# Altium footprint library sustentationAvecPC.PcbLib: 21 footprints (part 2 of 2)
Each footprint in its own frame and in the unit in brackets; x right, y up, seen from the top. Pads: shape width x height; smd on the part's side, far side on the other; paste and mask are expansions set on the pad; w line width, h text height; cw(c..) or ccw(c..) is an arc to the next point about the centre after c.
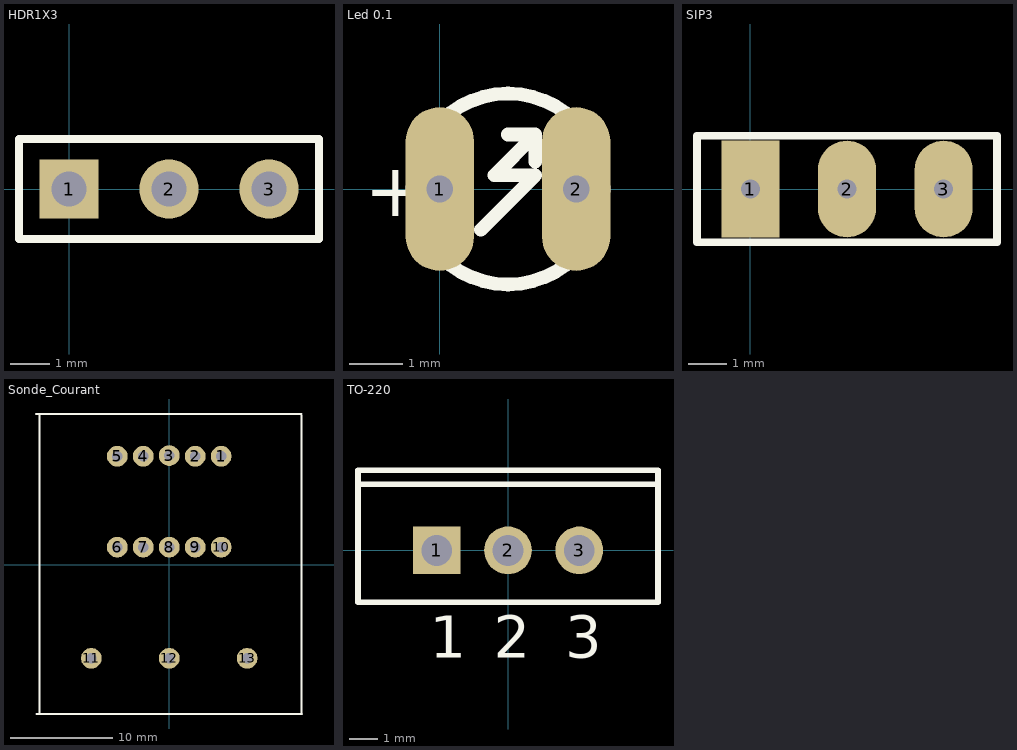
[diagram p1: the footprints below, top view; thin cyan lines are the x and y axes]

## HDR1X3 [mm] "Connector; Header; 3 Position"
pads (3):
  rect 1.5x1.5 hole 0.9: 1(0,0)
  round 1.5 hole 0.9: 2(2.54,0) 3(5.08,0)
Top Overlay:
  lines w0.2: -1.27,-1.27 6.35,-1.27 6.35,1.27 -1.27,1.27 -1.27,-1.27

## Led 0.1 [mil]
pads (2):
  oval 50x120 hole 19.68: 1(0,0) 2(100,0)
Top Overlay:
  circle w10: c50,0 r70
  lines w10: 30,-30 70,10 40,10 70,40 ; 50,40 70,40 ; 70,20 70,40
  text "+" at -55,-20 h39.37

## SIP3 [mil]
pads (3):
  rect 60x100 hole 19.68: 1(0,0)
  oval 60x100 hole 19.68: 2(100,0) 3(200,0)
Top Overlay:
  lines w7.87: -55.12,-55.12 -55.12,55.12 255.12,55.12 255.12,-55.12 -55.12,-55.12

## Sonde_Courant [mil] "Adjustable Magnetic-Core Inductor; 2 Leads"
pads (13):
  round 80 hole 39.37: 1(200,417.32) 2(100,417.32) 3(0,420) 4(-100,417.32) 5(-200,417.32) 6(-200,67.32) 7(-100,67.32) 8(0,67.32) 9(100,67.32) 10(200,67.32) 11(-300,-360.63) 12(0,-360.63) 13(300,-360.63)
Top Overlay:
  lines w7.87: -513.62,580 510,580 ; -511.81,-575 511.81,-575 ; -500,-569.61 -500,580 ; 510,-574.61 510,575

## TO-220 [mm] "TO, Thru-Hole, Vertical, Heatsink Mounted; 3 In-Line Leads; Pitch 2.54 mm"
height 22.9
pads (3):
  rect 1.7x1.7 hole 1.1: 1(-2.54,0)
  round 1.7 hole 1.1: 2(0,0) 3(2.54,0)
Top Overlay:
  lines w0.2: -5.35,2.35 5.35,2.35 ; -5.35,-1.85 -5.35,2.85 5.35,2.85 5.35,-1.85 -5.35,-1.85
  text "3" at 2.04,-3.825 h1.5
  text "2" at -0.5,-3.825 h1.5
  text "1" at -2.79,-3.825 h1.5